# Altium schematic symbol library fairchild-diode.SchLib: 5 symbols
Pins are listed as number, name and electrical type; pins without a type are passive.

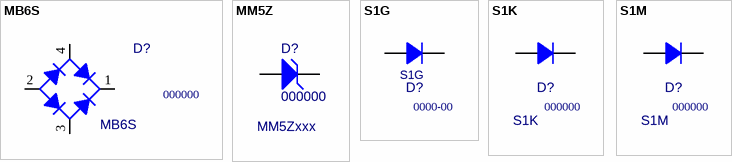
[diagram p0: symbols MB6S to S1M]

## MB6S
designator D?, comment 000000  value MB6S
SMD Bridge Rectifier 600V 0.5A; PN: 000000; Package: SOIC-4; ExtraInfo: *
simulation model BRIDGE (Spice Subcircuit)
footprint SOIC-4 (SOIC, 4-Leads, Body 4.9x4.0mm (max), Pitch 1.27mm, IPC Medium Density)
pins: 1 K, 2 A, 3 C, 4 C

## MM5Z
designator D?, comment 000000  value MM5Zxxx
Zener Diode; PN: 000000; Package: SOD523F; ExtraInfo: *
simulation model ZENER (Diode)
footprint SOD-523F (Molded Diode, 2-Leads - High Density)
pins: 1 A, 2 K

## S1G
designator D?, comment 0000-00  MF PN: S1G
Rectifier 1A 400V; MF: Fairchild; PN: 0000-00; Package: DO-214AC; ExtraInfo: *
footprint DO-214AC (Molded Diode, 2-Leads, Body 4.3x2.6mm, IPC High Density)
footprint DO-214AC-HV (Molded Diode, 2-Leads, Body 4.3x2.6mm, IPC High Voltage)
pins: 1 A, 2 K

## S1K
designator D?, comment 000000  value S1K
Rectifier 1A 800V; MF: Fairchild; PN: 000000; Package: DO-214AC; ExtraInfo: *; MF PN: S1K; Price: 0.03759; Digi-Key PN: S1KFSCT-ND
footprint DO-214AC (Molded Diode, 2-Leads, Body 4.3x2.6mm, IPC High Density)
footprint DO-214AC-HV (Molded Diode, 2-Leads, Body 4.3x2.6mm, IPC High Voltage)
pins: 1 A, 2 K

## S1M
designator D?, comment 000000  value S1M
Rectifier 1A 1000V; MF: Fairchild; PN: 000000; Package: DO-214AC; ExtraInfo: *; MF PN: S1M; Price: 0.04620; Digi-Key PN: S1MFSCT-ND
footprint DO-214AC (Molded Diode, 2-Leads, Body 4.3x2.6mm, IPC High Density)
footprint DO-214AC-HV (Molded Diode, 2-Leads, Body 4.3x2.6mm, IPC High Voltage)
pins: 1 A, 2 K